# EAGLE library part LCD_GE (library julio)
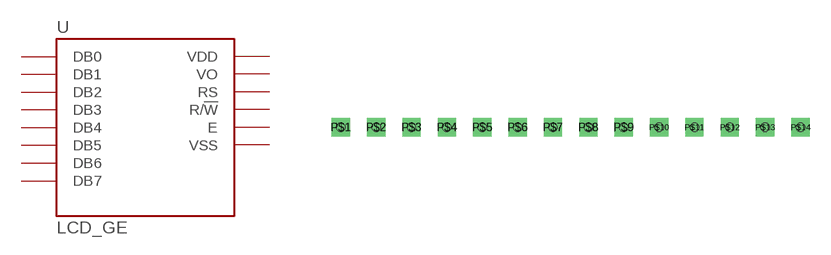
[diagram p0: symbol with the pads of LCD_GE; footprint LCD_GE]

Designator prefix -

## LCD_GE  [LCD_GE]
P$1  VSS
P$2  VDD
P$3  VO
P$4  RS
P$5  R/!W
P$6  E
P$7  DB0
P$8  DB1
P$9  DB2
P$10  DB3
P$11  DB4
P$12  DB5
P$13  DB6
P$14  DB7

## Footprint LCD_GE (pad centres in mm)
drill 0.8 square: P$1 0,0; P$2 2.54,0; P$3 5.08,0; P$4 7.62,0; P$5 10.16,0; P$6 12.7,0; P$7 15.24,0; P$8 17.78,0; P$9 20.32,0; P$10 22.86,0; P$11 25.4,0; P$12 27.94,0; P$13 30.48,0; P$14 33.02,0
hole 0.6 at 0,0
hole 0.6 at 2.54,0
hole 0.6 at 5.08,0
hole 0.6 at 7.62,0
hole 0.6 at 10.16,0
hole 0.6 at 12.7,0
hole 0.6 at 15.24,0
hole 0.6 at 17.78,0
hole 0.6 at 20.32,0
hole 0.6 at 22.86,0
hole 0.6 at 25.4,0
hole 0.6 at 27.94,0
hole 0.6 at 30.48,0
hole 0.6 at 33.02,0